# Altium schematic symbol library Cellar Watchdog.SchLib: 75 symbols (part 1 of 2)
Pins are listed as number, name and electrical type; pins without a type are passive.

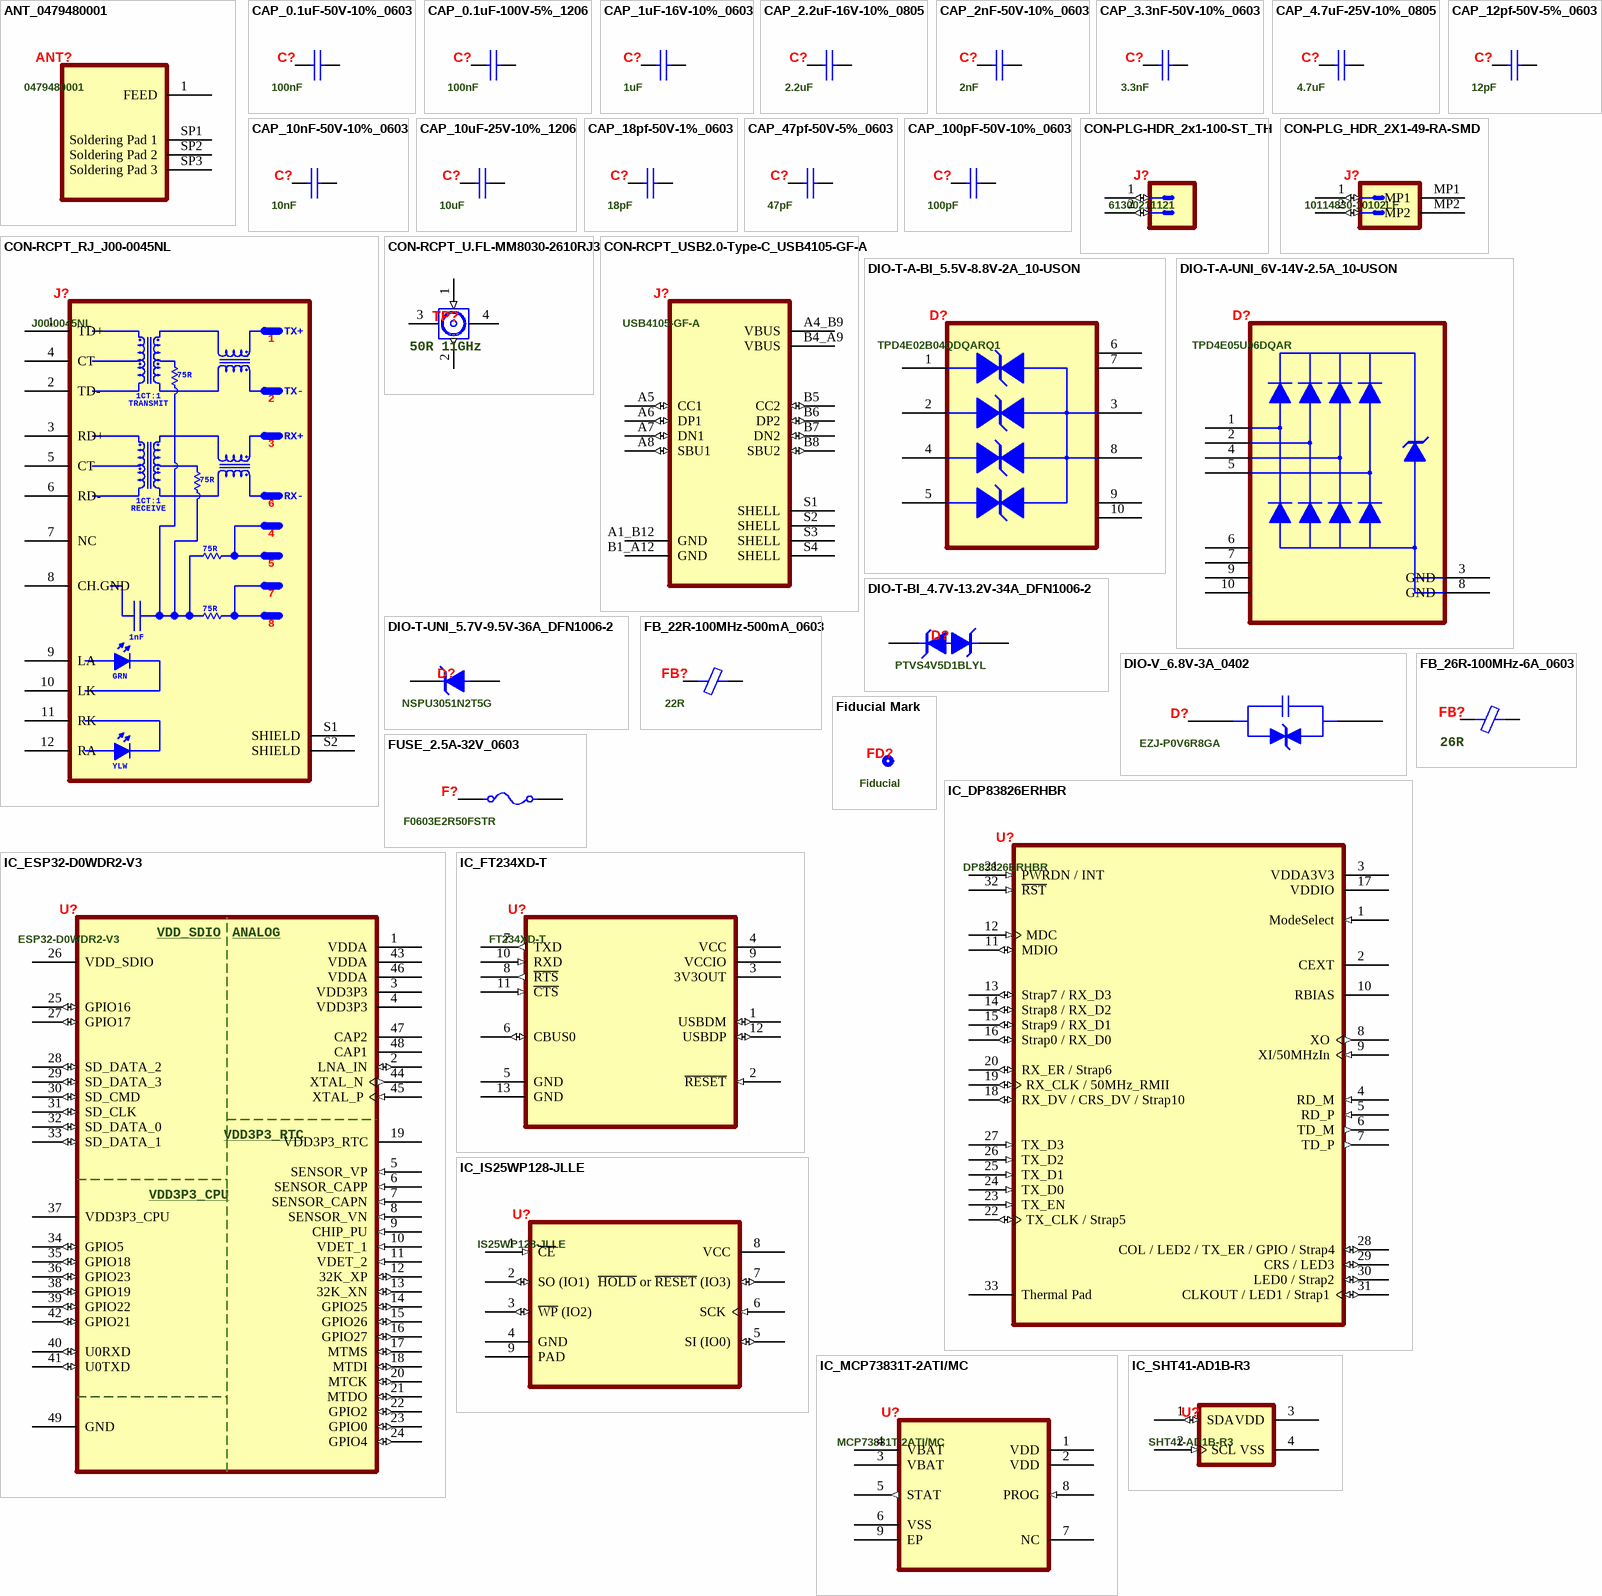
[diagram p0: symbols ANT_0479480001 to IC_SHT41-AD1B-R3]

## ANT_0479480001
designator ANT?, comment 0479480001
2.4GHz Bluetooth, WLAN, Zigbee™ Chip RF Antenna 2.4GHz ~ 2.483.5GHz 3dBi Solder Surface Mount; Manufacturer: Molex; Supplier 1: Digi-Key; Manufacturer Part Number: 0479480001; RoHS: Yes; Category: Uncategorized; Stock 1: 24488; Pricing 1: 1=1.95000, 10=1.75600, 25=1.65640, 100=1.41130, 250=1.32520, 500=1.15956 (USD); Supplier 2: Mouser; Supplier Part Number 1: WM4893CT-ND; Supplier Part Number 2: 538-47948-0001; ComponentLink4Description: Application Specification; ComponentLink4URL: C:\Users\Public\Documents\Altium\Projects\Cellar_Watchdog\Docs\Antenna\AS-47948-001-001.pdf; ComponentLink5Description: Product Specification; ComponentLink5URL: C:\Users\Public\Documents\Altium\Projects\Cellar_Watchdog\Docs\Antenna\PS-47948-001-001.pdf; ComponentLink6Description: Product Design Drawing; ComponentLink6URL: C:\Users\Public\Documents\Altium\Projects\Cellar_Watchdog\Docs\Antenna\479480001_sd.pdf
footprint ANT_MOLEX_0479480001 (Antenna Molex 0479480001)
pins: 1 FEED "Chip Enable", SP1 Soldering Pad 1, SP2 Soldering Pad 2, SP3 Soldering Pad 3

## CAP_0.1uF-50V-10%_0603
designator C?, comment 100nF
0.1 µF ±10% 50V Ceramic Capacitor X7R 0603 (1608 Metric); Manufacturer: Yageo; Manufacturer Part Number: CC0603KRX7R9BB104; Supplier 1: Digi-Key; RoHS: Yes; Category: Ceramic Capacitors; Stock 1: 10054527; Pricing 1: 1=0.10000, 10=0.05400, 50=0.02960, 100=0.02430, 500=0.01732, 1000=0.01361 (USD); Mounting Technology: Surface Mount; Case/Package: 0603; Pins: 2; Case Code (Metric): 1608; Case Code (Imperial): 0603; Dielectric Material: Ceramic; Min Operating Temperature: -55°C; Max Operating Temperature: 125°C; Package Quantity: 1; Capacitance: 100nF; Voltage Rating: 50V; Tolerance: 10%; Packaging: Tape and Reel; Dielectric: X7R; Termination: SMD/SMT; Voltage: 50V; Series: CC; Length: 0.063inch; Width: 0.031inch; Height: 0.8mm; Thickness: 0.035inch; Depth: 0.8mm; Radiation Hardening: No; Reach SVHC Compliant: Yes; Lead Free: Lead Free; Halogen Free: Halogen Free; RoHS Compliant: Yes; ComponentLink1URL: C:\Users\Public\Documents\Altium\Projects\Cellar_Watchdog\Docs\Capacitor\UPY-GPHC_X7R_6.3V-to-250V_22.pdf; ComponentLink1Description: Datasheet; Supplier Part Number 2: 603-CC603KRX7R9BB104; Supplier Part Number 1: 311-1344-1-ND; Supplier 2: Mouser
simulation model C_Capacitor_Default (Model Description)
footprint CAP_0603 (Ceramic Capacitor SMD 0603 (Metric 1608))
pins: 1, 2

## CAP_0.1uF-100V-5%_1206
designator C?, comment 100nF
0.1 µF ±5% 100V Ceramic Capacitor X7R 1206 (3216 Metric); Manufacturer: Yageo; Manufacturer Part Number: CC1206JKX7R0BB104; Supplier 1: Digi-Key; RoHS: Yes; Category: Ceramic Capacitors; Stock 1: 36526; Pricing 1: 1=0.27000, 10=0.18300, 50=0.12220, 100=0.10380, 500=0.07328, 1000=0.06412 (USD); Mounting Technology: Surface Mount; Case/Package: 1206; Case Code (Imperial): 1206; Case Code (Metric): 3216; Weight: 0.000571oz; Min Operating Temperature: -55°C; Max Operating Temperature: 125°C; Capacitance: 100nF; Tolerance: 5%; Packaging: Tape and Reel; Voltage Rating (DC): 100V; Voltage Rating: 100V; Dielectric: X7R; Termination: SMD/SMT; Resistor Type: Ceramic; Series: CC; Construction: Flat; Length: 3.2mm; Width: 0.063inch; Height: 1.25mm; Thickness: 0.057inch; Depth: 1.6mm; Radiation Hardening: No; Lead Free: Lead Free; RoHS Compliant: Yes; ComponentLink1URL: C:\Users\Public\Documents\Altium\Projects\Cellar_Watchdog\Docs\Capacitor\UPY-GPHC_X7R_6.3V-to-250V_22.pdf; ComponentLink1Description: Datasheet; Supplier 2: Mouser; Supplier Part Number 1: 311-3557-1-ND; Supplier Part Number 2: 603-CC126JKX7R0BB104
footprint CAP_1206 (Ceramic Capacitor SMD 1206 (Metric 3216))
simulation model C_Capacitor_Default (Model Description)
pins: 1, 2

## CAP_1uF-16V-10%_0603
designator C?, comment 1uF
1 µF ±10% 16V Ceramic Capacitor X7R 0603 (1608 Metric); Manufacturer: Yageo; Manufacturer Part Number: CC0603KRX7R7BB105; Dissipation Factor: 5%; Supplier 1: Digi-Key; RoHS: Yes; Category: Ceramic Capacitors; Stock 1: 10491943; Pricing 1: 1=0.14000, 10=0.09800, 50=0.05560, 100=0.04610, 500=0.03234, 1000=0.02678 (USD); Mounting Technology: Surface Mount; Case/Package: 0603; Pins: 2; Case Code (Metric): 1608; Case Code (Imperial): 0603; Min Operating Temperature: -55°C; Max Operating Temperature: 125°C; Capacitance: 1uF; Tolerance: 10%; Dielectric: X7R; Voltage Rating: 16V; Package Quantity: 1; Packaging: Tape and Reel; Voltage Rating (DC): 16V; Termination: SMD/SMT; Resistor Type: Ceramic; Voltage: 16V; Series: CC; Construction: Flat; Length: 1.6mm; Width: 0.031inch; Height: 0.8mm; Thickness: 0.035inch; Depth: 0.8mm; Radiation Hardening: No; Lead Free: Lead Free; Halogen Free: Halogen Free; RoHS Compliant: Yes; ComponentLink1URL: C:\Users\Public\Documents\Altium\Projects\Cellar_Watchdog\Docs\Capacitor\UPY-GPHC_X7R_6.3V-to-250V_22.pdf; ComponentLink1Description: Datasheet; Supplier 2: Mouser; Supplier Part Number 1: 311-1446-1-ND; Supplier Part Number 2: 603-CC603KRX7R7BB105
footprint CAP_0805 (Ceramic Capacitor SMD 0805 (Metric 2012))
simulation model C_Capacitor_Default (Model Description)
pins: 1, 2

## CAP_2.2uF-16V-10%_0805
designator C?, comment 2.2uF
2.2 µF ±10% 16V Ceramic Capacitor X7R 0805 (2012 Metric); Manufacturer: Yageo; Manufacturer Part Number: CC0805KKX7R7BB225; Supplier 1: Digi-Key; RoHS: Yes; Category: Ceramic Capacitors; Stock 1: 121066; Pricing 1: 1=0.27000, 10=0.18700, 50=0.11240, 100=0.09500, 500=0.06500, 1000=0.05749 (USD); Mounting Technology: Surface Mount; Case/Package: 0805; Pins: 2; Case Code (Imperial): 0805; Case Code (Metric): 2012; Min Operating Temperature: -55°C; Max Operating Temperature: 125°C; Capacitance: 2.2uF; Tolerance: 10%; Dielectric: X7R; Voltage Rating: 16V; Voltage Rating (DC): 16V; Packaging: Tape and Reel; Termination: SMD/SMT; Resistor Type: Ceramic; Series: CC; Construction: Flat; Length: 2mm; Width: 0.049inch; Height: 1.25mm; Thickness: 0.057inch; Depth: 1.25mm; Radiation Hardening: No; Lead Free: Lead Free; Halogen Free: Halogen Free; RoHS Compliant: Yes; ComponentLink1URL: C:\Users\Public\Documents\Altium\Projects\Cellar_Watchdog\Docs\Capacitor\UPY-GPHC_X7R_6.3V-to-250V_22.pdf; ComponentLink1Description: Datasheet; Supplier 2: Mouser; Supplier Part Number 2: 603-CC805KKX7R7BB225; Supplier Part Number 1: 311-1881-1-ND
footprint CAP_0805 (Ceramic Capacitor SMD 0805 (Metric 2012))
simulation model C_Capacitor_Default (Model Description)
pins: 1, 2

## CAP_2nF-50V-10%_0603
designator C?, comment 2nF
2000 pF ±10% 50V Ceramic Capacitor X7R 0603 (1608 Metric); Manufacturer: Yageo; Manufacturer Part Number: CC0603KRX7R9BB202; Supplier 1: Digi-Key; RoHS: Yes; Category: Ceramic Capacitors; Stock 1: 23619; Pricing 1: 1=0.10000, 10=0.06100, 50=0.03320, 100=0.02710, 500=0.01934, 1000=0.01519 (USD); Mounting Technology: Surface Mount; Case/Package: 0603; Case Code (Imperial): 0603; Case Code (Metric): 1608; Weight: 7.1E-05oz; Min Operating Temperature: -55°C; Max Operating Temperature: 125°C; Packaging: Tape and Reel; Capacitance: 2nF; Voltage Rating (DC): 50V; Tolerance: 10%; Voltage Rating: 50V; Dielectric: X7R; Termination: SMD/SMT; Resistor Type: Ceramic; Series: CC; Length: 0.063inch; Width: 0.031inch; Thickness: 0.035inch; Depth: 0.8mm; Lead Free: Lead Free; Halogen Free: Halogen Free; ComponentLink1URL: C:\Users\Public\Documents\Altium\Projects\Cellar_Watchdog\Docs\Capacitor\UPY-GPHC_X7R_6.3V-to-250V_22.pdf; ComponentLink1Description: Datasheet; Supplier 2: Mouser; Supplier Part Number 1: 311-4098-1-ND; Supplier Part Number 2: 603-CC603KRX7R9BB202
footprint CAP_0603 (Ceramic Capacitor SMD 0603 (Metric 1608))
simulation model C_Capacitor_Default (Model Description)
pins: 1, 2

## CAP_3.3nF-50V-10%_0603
designator C?, comment 3.3nF
3300 pF ±10% 50V Ceramic Capacitor X7R 0603 (1608 Metric); Manufacturer: Yageo; Manufacturer Part Number: CC0603KRX7R9BB332; Dissipation Factor: 3%; Insulation Resistance: 100GR; Supplier 1: Digi-Key; RoHS: Yes; Category: Ceramic Capacitors; Stock 1: 541031; Pricing 1: 1=0.10000, 10=0.04600, 50=0.02480, 100=0.02030, 500=0.01450, 1000=0.01139 (USD); Mounting Technology: Surface Mount; Case/Package: 0603; Pins: 2; Case Code (Imperial): 0603; Case Code (Metric): 1608; Dielectric Material: Ceramic; Min Operating Temperature: -55°C; Max Operating Temperature: 125°C; Tolerance: 10%; Capacitance: 3.3nF; Dielectric: X7R; Package Quantity: 1; Voltage Rating: 50V; Voltage Rating (DC): 50V; Packaging: Tape and Reel; Termination: SMD/SMT; Resistor Type: Ceramic; Voltage: 50V; Series: CC; Length: 1.6mm; Width: 0.031inch; Height: 0.8mm; Thickness: 0.035inch; Depth: 0.8mm; Radiation Hardening: No; RoHS Compliant: Yes; Reach SVHC Compliant: Yes; Lead Free: Lead Free; Halogen Free: Halogen Free; ComponentLink1URL: C:\Users\Public\Documents\Altium\Projects\Cellar_Watchdog\Docs\Capacitor\UPY-GPHC_X7R_6.3V-to-250V_22.pdf; ComponentLink1Description: Datasheet; Supplier 2: Mouser; Supplier Part Number 1: 311-1082-1-ND; Supplier Part Number 2: 603-CC603KRX7R9BB332
simulation model C_Capacitor_Default (Model Description)
footprint CAP_0603 (Ceramic Capacitor SMD 0603 (Metric 1608))
pins: 1, 2

## CAP_4.7uF-25V-10%_0805
designator C?, comment 4.7uF
4.7 µF ±10% 25V Ceramic Capacitor X7R 0805 (2012 Metric); Manufacturer: Yageo; Manufacturer Part Number: CC0805KKX7R8BB475; Supplier 1: Digi-Key; RoHS: Yes; Category: Ceramic Capacitors; Stock 1: 26099; Pricing 1: 1=0.39000, 10=0.27000, 50=0.18940, 100=0.16230, 500=0.12172, 1000=0.10278 (USD); Mounting Technology: Surface Mount; Case/Package: 0805; Case Code (Metric): 2012; Case Code (Imperial): 0805; Weight: 0.000194oz; Min Operating Temperature: -55°C; Max Operating Temperature: 125°C; Packaging: Tape and Reel; Capacitance: 4.7uF; Voltage Rating: 25V; Tolerance: 10%; Dielectric: X7R; Termination: SMD/SMT; Voltage Rating (DC): 25V; Package Quantity: 3000; Length: 0.079inch; Width: 0.049inch; Thickness: 0.057inch; Lead Free: Lead Free; Halogen Free: Halogen Free; RoHS Compliant: Yes; ComponentLink1URL: C:\Users\Public\Documents\Altium\Projects\Cellar_Watchdog\Docs\Capacitor\UPY-GP_NP0_16V-to-50V_18.pdf; ComponentLink1Description: Datasheet; Supplier 2: Mouser; Supplier Part Number 1: 311-1885-1-ND; Supplier Part Number 2: 603-CC805KKX7R8BB475
footprint CAP_0805 (Ceramic Capacitor SMD 0805 (Metric 2012))
simulation model C_Capacitor_Default (Model Description)
pins: 1, 2

## CAP_10nF-50V-10%_0603
designator C?, comment 10nF
10000 pF ±10% 50V Ceramic Capacitor X7R 0603 (1608 Metric); Manufacturer: Yageo; Manufacturer Part Number: CC0603KRX7R9BB103; Insulation Resistance: 100GR; Supplier 1: Digi-Key; RoHS: Yes; Category: Ceramic Capacitors; Stock 1: 8015125; Pricing 1: 1=0.10000, 10=0.03200, 50=0.01760, 100=0.01440, 500=0.01026, 1000=0.00805 (USD); Mounting Technology: Surface Mount; Case/Package: 0603; Pins: 2; Material: Ceramic; Case Code (Metric): 1608; Case Code (Imperial): 0603; Min Operating Temperature: -55°C; Max Operating Temperature: 125°C; Tolerance: 10%; Capacitance: 10nF; Dielectric: X7R; Voltage: 50V; Packaging: Tape and Reel; Voltage Rating: 50V; Voltage Rating (DC): 50V; Package Quantity: 1; Termination: SMD/SMT; Resistor Type: Ceramic; Series: CC; Length: 1.6mm; Width: 0.031inch; Height: 0.8mm; Thickness: 0.035inch; Depth: 0.8mm; Radiation Hardening: No; RoHS Compliant: Yes; Lead Free: Lead Free; Halogen Free: Halogen Free; ComponentLink1URL: C:\Users\Public\Documents\Altium\Projects\Cellar_Watchdog\Docs\Capacitor\UPY-GPHC_X7R_6.3V-to-250V_22.pdf; ComponentLink1Description: Datasheet; Supplier 2: Mouser; Supplier Part Number 1: 311-1085-1-ND; Supplier Part Number 2: 603-CC603KRX7R9BB103
footprint CAP_0603 (Ceramic Capacitor SMD 0603 (Metric 1608))
simulation model C_Capacitor_Default (Model Description)
pins: 1, 2

## CAP_10uF-25V-10%_1206
designator C?, comment 10uF
10 µF ±10% 25V Ceramic Capacitor X7R 1206 (3216 Metric); Manufacturer: Yageo; Manufacturer Part Number: CC1206KKX7R8BB106; Supplier 1: Digi-Key; RoHS: Yes; Category: Ceramic Capacitors; Stock 1: 67513; Pricing 1: 1=0.51000, 10=0.35100, 50=0.24580, 100=0.21070, 500=0.15806, 1000=0.13347 (USD); Mounting Technology: Surface Mount; Case/Package: 1206; Case Code (Imperial): 1206; Case Code (Metric): 3216; Weight: 0.000571oz; Min Operating Temperature: -55°C; Max Operating Temperature: 125°C; Capacitance: 10uF; Tolerance: 10%; Dielectric: X7R; Packaging: Tape and Reel; Voltage Rating (DC): 25V; Voltage Rating: 25V; Termination: SMD/SMT; Resistor Type: Ceramic; Series: CC; Construction: Flat; Length: 3.2mm; Width: 1.6mm; Depth: 1.6mm; Thickness: 0.071inch; Radiation Hardening: No; Lead Free: Lead Free; Halogen Free: Halogen Free; RoHS Compliant: Yes; Supplier 2: Mouser; ComponentLink1Description: Datasheet; ComponentLink1URL: C:\Users\Public\Documents\Altium\Projects\Cellar_Watchdog\Docs\Capacitor\UPY-GPHC_X7R_6.3V-to-250V_22.pdf; Supplier Part Number 1: 311-1959-1-ND; Supplier Part Number 2: 603-CC126KKX7R8BB106
simulation model C_Capacitor_Default (Model Description)
footprint CAP_1206 (Ceramic Capacitor SMD 1206 (Metric 3216))
pins: 1, 2

## CAP_12pf-50V-5%_0603
designator C?, comment 12pF
12 pF ±5% 50V Ceramic Capacitor C0G, NP0 0603 (1608 Metric); Manufacturer: Yageo; Manufacturer Part Number: CC0603JRNPO9BN120; Insulation Resistance: 100GR; Supplier 1: Digi-Key; RoHS: Yes; Category: Ceramic Capacitors; Stock 1: 152407; Pricing 1: 1=0.10000, 10=0.05100, 50=0.02800, 100=0.02280, 500=0.01630, 1000=0.01280 (USD); Mounting Technology: Surface Mount; Case/Package: 0603; Pins: 2; Case Code (Metric): 1608; Case Code (Imperial): 0603; Dielectric Material: Ceramic; Min Operating Temperature: -55°C; Max Operating Temperature: 125°C; Package Quantity: 1; Capacitance: 12pF; Voltage Rating: 50V; Tolerance: 5%; Packaging: Tape and Reel; Voltage Rating (DC): 50V; Dielectric: C0G; Termination: SMD/SMT; Resistor Type: Ceramic; Series: CC; Length: 1.6mm; Width: 0.031inch; Height: 0.8mm; Thickness: 0.035inch; Depth: 0.8mm; Radiation Hardening: No; Reach SVHC Compliant: Yes; Lead Free: Lead Free; RoHS Compliant: Yes; ComponentLink7URL: C:\Users\Public\Documents\Altium\Projects\Cellar_Watchdog\Docs\Capacitor\UPY-GP_NP0_16V-to-50V_18.pdf; ComponentLink7Description: Datasheet; Supplier 2: Mouser; Supplier Part Number 1: 311-1059-1-ND; Supplier Part Number 2: 603-CC603JRNPO9BN120
simulation model C_Capacitor_Default (Model Description)
footprint CAP_0603 (Ceramic Capacitor SMD 0603 (Metric 1608))
pins: 1, 2

## CAP_18pf-50V-1%_0603
designator C?, comment 18pF
18 pF ±1% 50V Ceramic Capacitor C0G, NP0 0603 (1608 Metric); Manufacturer: Yageo; Manufacturer Part Number: CC0603FRNPO9BN180; Supplier 1: Digi-Key; RoHS: Yes; Category: Ceramic Capacitors; Stock 1: 77143; Pricing 1: 1=0.19000, 10=0.13300, 50=0.07560, 100=0.06260, 500=0.04390, 1000=0.03634 (USD); Mounting Technology: Surface Mount; Case/Package: 0603; Case Code (Imperial): 0603; Case Code (Metric): 1608; Min Operating Temperature: -55°C; Max Operating Temperature: 125°C; Tolerance: 1%; Capacitance: 18pF; Dielectric: C0G; Packaging: Tape and Reel; Voltage Rating: 50V; Voltage Rating (DC): 50V; Termination: SMD/SMT; Resistor Type: Ceramic; Series: CC; Length: 1.6mm; Width: 0.031inch; Height: 0.8mm; Thickness: 0.035inch; Depth: 0.8mm; Radiation Hardening: No; Lead Free: Lead Free; RoHS Compliant: Yes; Supplier 2: Mouser; ComponentLink1Description: Datasheet; ComponentLink1URL: C:\Users\Public\Documents\Altium\Projects\Cellar_Watchdog\Docs\Capacitor\UPY-GP_NP0_16V-to-50V_18.pdf; Supplier Part Number 2: 603-CC603FRNPO9BN180; Supplier Part Number 1: 311-3889-1-ND
footprint CAP_0603 (Ceramic Capacitor SMD 0603 (Metric 1608))
simulation model C_Capacitor_Default (Model Description)
pins: 1, 2

## CAP_47pf-50V-5%_0603
designator C?, comment 47pF
47 pF ±5% 50V Ceramic Capacitor C0G, NP0 0603 (1608 Metric); Manufacturer: Yageo Phycomp; Manufacturer Part Number: CC0603JRNPO9BN470; Insulation Resistance: 100GR; Temperature Coefficient: 30ppm/°C; Supplier 1: Digi-Key; RoHS: Yes; Category: Ceramic Capacitors; Stock 1: 855841; Pricing 1: 1=0.10000, 10=0.03500, 50=0.01920, 100=0.01570, 500=0.01120, 1000=0.00880 (USD); Mounting Technology: Surface Mount; Case/Package: 0603; Pins: 2; Case Code (Imperial): 0603; Case Code (Metric): 1608; Min Operating Temperature: -55°C; Max Operating Temperature: 125°C; Tolerance: 5%; Capacitance: 47pF; Dielectric: C0G; Voltage Rating: 50V; Packaging: Tape and Reel; Voltage Rating (DC): 50V; Voltage: 50V; Package Quantity: 1; Termination: SMD/SMT; Resistor Type: Ceramic; Series: CC; Length: 1.6mm; Width: 0.8mm; Height: 0.8mm; Thickness: 0.035inch; Depth: 0.8mm; Radiation Hardening: No; Lead Free: Lead Free; RoHS Compliant: Yes; Reach SVHC Compliant: Yes; ComponentLink1URL: C:\Users\Public\Documents\Altium\Projects\Cellar_Watchdog\Docs\Capacitor\UPY-GP_NP0_16V-to-50V_18.pdf; ComponentLink1Description: Datasheet; Supplier 2: Mouser; Supplier Part Number 1: 311-1065-1-ND; Supplier Part Number 2: 603-CC603JRNPO9BN470
simulation model C_Capacitor_Default (Model Description)
footprint CAP_0603 (Ceramic Capacitor SMD 0603 (Metric 1608))
pins: 1, 2

## CAP_100pF-50V-10%_0603
designator C?, comment 100pF
100 pF ±10% 50V Ceramic Capacitor X7R 0603 (1608 Metric); Manufacturer: Yageo; Manufacturer Part Number: CC0603KRX7R9BB101; Insulation Resistance: 100GR; Supplier 1: Digi-Key; RoHS: Yes; Category: Ceramic Capacitors; Stock 1: 454408; Pricing 1: 1=0.10000, 10=0.04800, 50=0.02620, 100=0.02140, 500=0.01528, 1000=0.01200 (USD); Mounting Technology: Surface Mount; Case/Package: 0603; Pins: 2; Case Code (Imperial): 0603; Case Code (Metric): 1608; Min Operating Temperature: -55°C; Max Operating Temperature: 125°C; Capacitance: 100pF; Tolerance: 10%; Dielectric: X7R; Voltage Rating (DC): 50V; Packaging: Tape and Reel; Voltage Rating: 50V; Package Quantity: 4000; Termination: SMD/SMT; Voltage: 50V; Series: CC; Length: 1.6mm; Width: 0.031inch; Height: 0.8mm; Thickness: 0.035inch; Depth: 0.8mm; Radiation Hardening: No; RoHS Compliant: Yes; Reach SVHC Compliant: Yes; Lead Free: Lead Free; Halogen Free: Halogen Free; ComponentLink1URL: C:\Users\Public\Documents\Altium\Projects\Cellar_Watchdog\Docs\Capacitor\UPY-GPHC_X7R_6.3V-to-250V_22.pdf; ComponentLink1Description: Datasheet; Supplier 2: Mouser; Supplier Part Number 1: 311-3601-1-ND; Supplier Part Number 2: 603-CC603KRX7R9BB101
simulation model C_Capacitor_Default (Model Description)
footprint CAP_0603 (Ceramic Capacitor SMD 0603 (Metric 1608))
pins: 1, 2

## CON-PLG-HDR_2x1-100-ST_TH
designator J?, comment 61300211121
Connector Header Through Hole 2 position 0.100" (2.54mm); Manufacturer: Wurth Electronics; Current Rating: 3A; Voltage Rating: 250V; Number of Positions: 2; Gender: Male; Connector Type: Male Pin; Pitch: 0.1inch; Supplier 1: Digi-Key; Manufacturer Part Number: 61300211121; RoHS: Yes; Category: Headers and Wire Housings; Stock 1: 266203; Pricing 1: 1=0.13000, 10=0.11300, 25=0.09400, 50=0.07900, 100=0.07100, 1000=0.06500 (USD); Mounting Technology: Through Hole; Contact Plating: Gold; Housing Material: PBT; Contact Material: Copper Alloy,Copper; Color: Black; Min Operating Temperature: -40°C; Max Operating Temperature: 125°C; Number of Rows: 1; Contact Gender: Male; Packaging: Bulk; Termination: Through Hole; Number of Contacts: 2; Series: WR-PHD; Contact Type: Male Pin; Contact Mating Length: 0.236inch; Lead Free: Lead Free; RoHS Compliant: Yes; ComponentLink1URL: C:\Users\Public\Documents\Altium\Projects\Cellar_Watchdog\Docs\Connector\6130xx11121.pdf; ComponentLink1Description: Datasheet; Supplier 2: Mouser; Supplier Part Number 1: 732-5315-ND; Supplier Part Number 2: 710-61300211121
footprint CON_PLG_HDR-2x1-100 (Header Vertical Through Hole 2 position 0.100" (2.54mm))
pins: 1 (io), 2 (io)

## CON-PLG_HDR_2X1-49-RA-SMD
designator J?, comment 10114830-10102LF
Connector Header Surface Mount, Right Angle 2 position 0.049" (1.25mm); Manufacturer: Amphenol Communications Solutions; Supplier 1: Digi-Key; Manufacturer Part Number: 10114830-10102LF; RoHS: No; Category: Connectors; Stock 1: 12004; Pricing 1: 1=0.39000, 10=0.33200, 100=0.25860, 500=0.22164 (USD); Supplier 2: Mouser; Supplier Part Number 1: 609-5378-1-ND; Supplier Part Number 2: 649-10114830-10102LF; ComponentLink1Description: Datasheet; ComponentLink1URL: C:\Users\Public\Documents\Altium\Projects\Cellar_Watchdog\Docs\Connector\gs-12-675.pdf; ComponentLink2Description: Drawing; ComponentLink2URL: C:\Users\Public\Documents\Altium\Projects\Cellar_Watchdog\Docs\Connector\10114830.pdf
footprint CON-PLG_HDR_2X1-10114828-11103LF (Connector Male 2-pin Amphenol 10114828-11103LF)
pins: 1 (io), 2 (io), MP1, MP2

## CON-RCPT_RJ_J00-0045NL
designator J?, comment J00-0045NL
1 Port RJ45 Through Hole 10/100 Base-TX, AutoMDIX; Manufacturer: Pulse; Number of Ports: 1; Number of Positions Loaded: 8; Pitch: 2.54mm; Supplier 1: Digi-Key; Manufacturer Part Number: J00-0045NL; RoHS: Yes; Category: Modular / Ethernet Connectors; Stock 1: 10543; Pricing 1: 1=6.57000, 10=5.94100, 25=5.61200, 50=5.47540, 100=5.20150, 250=4.65400, 500=4.38024, 1000=3.83272, 2500=3.64108 (USD); Number of Pins: 8; Contact Material: Bronze; Contact Plating: Gold; Housing Material: Thermoplastic; Min Operating Temperature: 0°C; Max Operating Temperature: 70°C; Orientation: Right Angle; Packaging: Rail/Tube; Length: 16.26mm; Depth: 21.59mm; Lead Free: Lead Free; RoHS Compliant: Yes; Supplier 2: Mouser; Supplier Part Number 1: 553-1619-5-ND; Supplier Part Number 2: 673-J00-0045NL; ComponentLink2Description: Datasheet; ComponentLink2URL: C:\Users\Public\Documents\Altium\Projects\Cellar_Watchdog\Docs\Connector\J00_Series_Rev_Mar2019.pdf
footprint CON-RCPT_RJ_PULSE_J00-0045NL (Connector RJ PULSE J00-0045NL)
pins: 1 TD+, 2 TD-, 3 RD+, 4 CT, 5 CT, 6 RD-, 7 NC, 8 CH.GND (power), 9 LA, 10 LK, 11 RK, 12 RA, S1 SHIELD, S2 SHIELD
text: TX+; 75R; TX-; 1CT:1; TRANSMIT; RX+; RX-; RECEIVE; 1nF; GRN; YLW

## CON-RCPT_U.FL-MM8030-2610RJ3
designator TP?, comment 50R 11GHz
SWG Connector Receptacle, Female Socket 50Ohm Surface Mount Solder; Manufacturer: Murata; Manufacturer Part Number: MM8030-2610RJ3; Body Material: Copper; Voltage Rating: 250V; Polarity: Standard; Insulation Resistance: 500MR; Operating Frequency: 0 to 11 GHz; Supplier 1: Digi-Key; RoHS: No; Category: RF / Coaxial Connectors; Stock 1: 124387; Pricing 1: 1=0.18000, 10=0.15300, 25=0.13600, 50=0.12700, 100=0.11790, 250=0.10432, 500=0.09976, 1000=0.08163 (USD); Mounting Technology: Surface Mount; Case/Package: SMD/SMT; Contact Plating: Gold; Housing Color: Gold; Min Operating Temperature: -40°C; Max Operating Temperature: 85°C; Package Quantity: 1; Impedance: 50R; Fastening Type: Pull; Packaging: Tape and Reel; Termination: Solder; Clock Frequency: 11GHz; Frequency: 11GHz; Connector Type: Socket; Orientation: Straight; Series: 8030; Length: 2.1mm; Depth: 2mm; Lead Free: Lead Free; RoHS Compliant: No; ComponentLink1URL: C:\Users\Public\Documents\Altium\Projects\Cellar_Watchdog\Docs\Connector\Microwave_Coaxial_Conn_Cat030E.pdf; ComponentLink1Description: Datasheet; Supplier 2: Mouser; Supplier Part Number 2: 81-MM8030-2610RJ3; Supplier Part Number 1: 490-5907-1-ND
footprint CON-RCPT_U.FL_MM8030-2610RJ3 (SWG Connecyor Receptacle Female Socket 50R SMD)
pins: 1 IN (in), 2 OUT (out), 3 GND (power), 4 GND (power)

## CON-RCPT_USB2.0-Type-C_USB4105-GF-A
designator J?, comment USB4105-GF-A
USB-C (USB TYPE-C) USB 2.0 Receptacle Connector 24 (16+8 Dummy) Position Surface Mount, Right Angle; Through Hole; Manufacturer: Global Connector Technology; ComponentLink2Description: Datasheet; ComponentLink2URL: C:\Users\Public\Documents\Altium\Projects\Cellar_Watchdog\Docs\Connector\usb4105.pdf; Supplier 1: Digi-Key; Manufacturer Part Number: USB4105-GF-A; RoHS: Yes; Category: USB Connectors; Stock 1: 73159; Pricing 1: 1=0.810000, 10=0.688000, 25=0.660000, 50=0.645800, 100=0.617700, 250=0.561560 (USD); Supplier 2: Mouser; Supplier Part Number 1: 2073-USB4105-GF-ACT-ND; Supplier Part Number 2: 640-USB4105-GF-A
footprint CON-RCPT_USB2.0-Type-C_GCT_USB4105-GF-A (Connector USB2.0 Type-C GCT USB4105-GF-A)
pins: A1_B12 GND (power) "Ground", A4_B9 VBUS (power) "Ground", A5 CC1 (io), A6 DP1 (io), A7 DN1 (io), A8 SBU1 (io), B1_A12 GND (power) "Ground", B4_A9 VBUS (power) "Ground", B5 CC2 (io), B6 DP2 (io), B7 DN2 (io), B8 SBU2 (io), S1 SHELL (power), S2 SHELL (power), S3 SHELL (power), S4 SHELL (power)

## DIO-T-A-BI_5.5V-8.8V-2A_10-USON
designator D?, comment TPD4E02B04QDQARQ1
8.8V Clamp 2A (8/20µs) Ipp Tvs Diode Surface Mount 10-USON (2.5x1); Manufacturer: Texas Instruments; Interface: LVDS,USB,Ethernet,HDMI; Number of Channels: 4; Reverse Standoff Voltage: 3.6V; Min Breakdown Voltage: 5.5V; Peak Pulse Power: 17W; Power Line Protection: No; Supplier 1: Digi-Key; Manufacturer Part Number: TPD4E02B04QDQARQ1; RoHS: Yes; Category: Integrated Circuits (ICs); Stock 1: 82049; Pricing 1: 1=0.72000, 10=0.63700, 100=0.48810, 500=0.38584, 1000=0.30867 (USD); Mount: Surface Mount; Number of Pins: 10; Min Operating Temperature: -40°C; Max Operating Temperature: 125°C; Resistor Type: Zener; Packaging: Tape and Reel; Number of Bidirectional Channels: 4; Clamping Voltage: 8.8V; Peak Pulse Current: 2A; RoHS Compliant: Yes; ComponentLink1URL: C:\Users\Public\Documents\Altium\Projects\Cellar_Watchdog\Docs\Diode\tpd4e02b04-q1.pdf; ComponentLink1Description: Datasheet; Supplier 2: Mouser; Supplier Part Number 1: 296-48995-1-ND; Supplier Part Number 2: 595-D4E02B04QDQARQ1
footprint DIO-T-A_10-USON (10-USON (2.5x1) Package)
pins: 1 IO1 "ESD Protected Channel", 2 IO2 "ESD Protected Channel", 3 GND (power) "Ground", 4 IO3 "ESD Protected Channel", 5 IO4 "ESD Protected Channel", 6 NC "Not connected", 7 NC "Not connected", 8 GND (power) "Ground", 9 NC "Not connected", 10 NC "Not connected"

## DIO-T-A-UNI_6V-14V-2.5A_10-USON
designator D?, comment TPD4E05U06DQAR
14V Clamp 2.5A (8/20µs) Ipp Tvs Diode Surface Mount 10-USON (2.5x1); Manufacturer: Texas Instruments; Direction: Unidirectional; Working Voltage: 5.5V; Capacitance: 0.5pF; Number of Bidirectional Channels: 4; Min Breakdown Voltage: 6V; Peak Pulse Power: 40W; Power Line Protection: Yes; Leakage Current: 10nA; Interface: LVDS,USB,Ethernet,HDMI,PCIe,SATA; Supplier 1: Digi-Key; Manufacturer Part Number: TPD4E05U06DQAR; RoHS: Yes; Category: Integrated Circuits (ICs); Stock 1: 330722; Pricing 1: 1=0.73000, 10=0.64300, 100=0.49310, 500=0.38980, 1000=0.31184 (USD); Mount: Surface Mount; Case/Package: SON; Number of Pins: 10; Contact Plating: Gold; Min Operating Temperature: -40°C; Max Operating Temperature: 125°C; Clamping Voltage: 14V; Packaging: Tape and Reel; Package Quantity: 3000; Polarity: Unidirectional; Reverse Standoff Voltage: 5.5V; Number of Channels: 4; Breakdown Voltage: 6V; Max Power Dissipation: 40W; Termination: SMD/SMT; Operating Supply Voltage: 5.5V; Peak Pulse Current: 2.5A; Series: -; Number of Unidirectional Channels: 4; Length: 2.6mm; Depth: 1.1mm; Radiation Hardening: No; Reach SVHC Compliant: Yes; Lead Free: Lead Free; RoHS Compliant: Yes; ComponentLink1URL: C:\Users\Public\Documents\Altium\Projects\Cellar_Watchdog\Docs\Diode\tpd4e05u06.pdf; ComponentLink1Description: Datasheet; Supplier 2: Mouser; Supplier Part Number 2: 595-TPD4E05U06DQAR; Supplier Part Number 1: 296-35765-1-ND
footprint DIO-T-A_10-USON (10-USON (2.5x1) Package)
simulation model TPD4E05U06 (4-Channel 14V Clamp 2.5A Ipp Tvs Diode)
pins: 1 D1+ "ESD Protected Channel", 2 D1- "ESD Protected Channel", 3 GND (power) "Ground", 4 D2+ "ESD Protected Channel", 5 D2- "ESD Protected Channel", 6 NC "Not connected", 7 NC "Not connected", 8 GND (power) "Ground", 9 NC "Not connected", 10 NC "Not connected"

## DIO-T-BI_4.7V-13.2V-34A_DFN1006-2
designator D?, comment PTVS4V5D1BLYL
13.2V Clamp 34A (8/20µs) Ipp Tvs Diode Surface Mount DFN1006-2; Manufacturer: Nexperia; Supplier 1: Digi-Key; Manufacturer Part Number: PTVS4V5D1BLYL; RoHS: Yes; Category: TVS Diodes; Stock 1: 9587; Pricing 1: 1=0.30000, 10=0.24200, 100=0.12810, 500=0.08426, 1000=0.05730, 2000=0.05168, 5000=0.04494 (USD); RoHS Compliant: Yes; ComponentLink1URL: C:\Users\Public\Documents\Altium\Projects\Cellar_Watchdog\Docs\Diode\PTVS4V5D1BL.pdf; ComponentLink1Description: Datasheet; Supplier 2: Mouser; Supplier Part Number 1: 1727-7415-1-ND; Supplier Part Number 2: 771-PTVS4V5D1BLYL
footprint DIO-T_DFN1006-2 (DFN1006-2(1x0.6) Package)
pins: 1 K1, 2 K2

## DIO-T-UNI_5.7V-9.5V-36A_DFN1006-2
designator D?, comment NSPU3051N2T5G
9.5V Clamp 36A (8/20µs) Ipp Tvs Diode Surface Mount 2-X2DFN (1x0.6); Manufacturer: ON Semiconductor; Number of Unidirectional Channels: 1; Reverse Standoff Voltage: 5.5V; Min Breakdown Voltage: 5.7V; Power Line Protection: No; Supplier 1: Digi-Key; Manufacturer Part Number: NSPU3051N2T5G; RoHS: Yes; Category: ESD and Circuit Protection ICs; Stock 1: 11788; Pricing 1: 1=0.40000, 10=0.30000, 100=0.17000, 500=0.11258, 1000=0.08631, 2000=0.07505 (USD); Mounting Technology: Surface Mount; Pins: 2; Min Operating Temperature: -65°C; Max Operating Temperature: 150°C; Resistor Type: Zener; Packaging: Cut Tape; Clamping Voltage: 9.5V; Peak Pulse Current: 36A; RoHS Compliant: Yes; ComponentLink1URL: C:\Users\Public\Documents\Altium\Projects\Cellar_Watchdog\Docs\Diode\NSPU3051-D.PDF; ComponentLink1Description: Datasheet; Supplier 2: Mouser; Supplier Part Number 1: NSPU3051N2T5GOSCT-ND; Supplier Part Number 2: 863-NSPU3051N2T5G
footprint DIO-T_DFN1006-2 (DFN1006-2(1x0.6) Package)
pins: 1 K, 2 A

## DIO-V_6.8V-3A_0402
designator D?, comment EZJ-P0V6R8GA
6.8 V 3 A Varistor 1 Circuit Surface Mount, MLCV 0402 (1005 Metric); Manufacturer: Panasonic; Supplier 1: Digi-Key; Manufacturer Part Number: EZJ-P0V6R8GA; RoHS: No; Category: Varistors; Stock 1: 8086; Pricing 1: 1=0.50000, 10=0.37400, 25=0.33680, 100=0.23280, 250=0.19608, 500=0.15930, 1000=0.12254, 2500=0.11029, 5000=0.10416 (USD); Supplier 2: Mouser; Supplier Part Number 1: 10-EZJ-P0V6R8GACT-ND; Supplier Part Number 2: 667-EZJ-P0V6R8GA; ComponentLink1Description: Datasheet; ComponentLink1URL: C:\Users\Public\Documents\Altium\Projects\Cellar_Watchdog\Docs\Diode\1695_fileversion.pdf
footprint CAP_0402 (0402 (1005 Metric) Package)
pins: 1, 2

## FB_22R-100MHz-500mA_0603
designator FB?, comment 22R
22 Ohms @ 100 MHz 1 Signal Line Ferrite Bead 0603 (1608 Metric) 500mA 350mOhm; Manufacturer: Murata; Manufacturer Part Number: BLM18BA220SN1D; Material: Ferrite,Steel; Tolerance: 25%; Number of Lines: 1; DC Resistance (DCR): 350mR; Test Frequency: 100MHz; Shielding: Unshielded; Supplier 1: Digi-Key; RoHS: Yes; Category: Ferrite Beads and Chips; Stock 1: 75893; Pricing 1: 1=0.10000, 10=0.07600, 25=0.06800, 50=0.05000, 100=0.04320, 250=0.03408, 500=0.02878, 1000=0.02424 (USD); Case/Package: 0603; Pins: 2; Core Material: Ferrite; Case Code (Metric): 1608; Case Code (Imperial): 0603; Min Operating Temperature: -55°C; Max Operating Temperature: 125°C; Package Quantity: 1; Impedance: 22R; Packaging: Tape and Reel; Current Rating: 500mA; Max Current Rating: 500mA; Max DC Current: 500mA; Termination: SMD/SMT; DC Current: 500mA; Frequency: 100MHz; Number of Circuits: 1; Series: BLM18B; DC Resistance-Max: 350mR; Length: 1.6mm; Width: 0.8mm; Height: 0.8mm; Depth: 0.8mm; Radiation Hardening: No; Reach SVHC Compliant: Yes; Military Standard: Not; Lead Free: Lead Free; RoHS Compliant: Yes; ComponentLink1URL: C:\Users\Public\Documents\Altium\Projects\Cellar_Watchdog\Docs\Ferrite Bead\QNFA9122.pdf; ComponentLink1Description: Datasheet; Supplier 2: Mouser; Supplier Part Number 2: 81-BLM18BA220SN1D; Supplier Part Number 1: 490-1016-1-ND
footprint FB_0603 (Ferrite Bead SMD 0603 (Metric 1608))
simulation model BLM18BA220SN1 (Model Description)
pins: 1, 2

## FB_26R-100MHz-6A_0603
designator FB?, comment 26R
26 Ohms @ 100 MHz 1 Power Line Ferrite Bead 0603 (1608 Metric) 6A 7mOhm; Manufacturer: Murata; Manufacturer Part Number: BLM18SG260TZ1D; Supplier 1: Mouser; RoHS: Yes; Category: Ferrite Beads and Chips; Stock 1: 1330; Pricing 1: 1=0.14000, 10=0.11300, 50=0.11300, 100=0.06300, 1000=0.03800, 10000=0.03400 (USD); RoHS Compliant: Yes; ComponentLink1URL: C:\Users\Public\Documents\Altium\Projects\Cellar_Watchdog\Docs\Ferrite Bead\QNFA9122.pdf; ComponentLink1Description: Datasheet; Supplier Part Number 1: 81-BLM18SG260TZ1D; Impedance: 26R
footprint FB_0603 (Ferrite Bead SMD 0603 (Metric 1608))
simulation model BLM18SG260TZ1 (Model Description)
pins: 1, 2

## Fiducial Mark
designator FD?, comment Fiducial  (no BOM)
PCB Fiducial Mark
footprint FID_RD (PCB Fiducial Mark)
footprint FID_SQ (PCB Fiducial Mark)

## FUSE_2.5A-32V_0603
designator F?, comment F0603E2R50FSTR
2.5 A AC 32 V DC Fuse Board Mount (Cartridge Style Excluded) Surface Mount 0603 (1608 Metric); Manufacturer: Kyocera AVX; Current Rating: 2.5A; Voltage Rating (DC): 32V; Resistance: 35mR; Approvals: UL; Supplier 1: Digi-Key; Manufacturer Part Number: F0603E2R50FSTR; RoHS: Yes; Category: Fuses; Stock 1: 6147; Pricing 1: 1=0.32000, 5=0.31000, 10=0.29500, 50=0.26360, 100=0.24540, 250=0.21816, 500=0.18180, 1000=0.17271 (USD); Mount: Surface Mount; Case/Package: 0603; Number of Pins: 2; Case Code (Metric): 1608; Case Code (Imperial): 0603; Min Operating Temperature: -55°C; Max Operating Temperature: 125°C; Packaging: Tape and Reel; Package Quantity: 3000; Voltage Rating: 32V; Max Voltage Rating (DC): 32V; Termination: SMD/SMT; DC Cold Resistance: 35mR; Working Voltage: 32V; Voltage Rating (AC): 32V; Fuse Type: Board Mount (Cartridge Style Excluded); Series: Accu-Guard® II; Length: 1.6mm; Width: 0.81mm; Height: 0.025inch; Depth: 0.81mm; Radiation Hardening: No; Lead Free: Lead Free; RoHS Compliant: Yes; ComponentLink1URL: C:\Users\Public\Documents\Altium\Projects\Cellar_Watchdog\Docs\Fuse\AccuGuard2.pdf; ComponentLink1Description: Datasheet; Supplier 2: Mouser; Supplier Part Number 1: 478-2867-1-ND; Supplier Part Number 2: 581-F0603E2R50FSTR
footprint FUSE_0603 (Fuse SMD 0603 (Metric 1608))
pins: 1 (power), 2 (power)

## IC_DP83826ERHBR
designator U?, comment DP83826ERHBR
Ethernet Controller 10/100 Base-T/TX PHY MII, RMII Interface 32-VQFN (5x5); Manufacturer: Texas Instruments; Supplier 1: Mouser; Manufacturer Part Number: DP83826ERHBR; RoHS: Yes; Category: Ethernet Interface ICs; Stock 1: 398; Pricing 1: 1=3.53000, 10=3.18000, 50=3.00000, 100=2.61000, 1000=1.94000, 10000=1.93000 (USD); Supplier Part Number 1: 595-DP83826ERHBR; ComponentLink2Description: Datasheet; ComponentLink2URL: C:\Users\Public\Documents\Altium\Projects\Cellar_Watchdog\Docs\Ethernet\dp83826e.pdf; ComponentLink3Description: Design Layout; ComponentLink3URL: C:\Users\Public\Documents\Altium\Projects\Cellar_Watchdog\Docs\Ethernet\snla387.pdf
footprint IC_QFN50P500X500X100-33N-D (VQFN32 (5mm x 5mm) package)
ibis DP83826 (Model Description)
pins: 1 ModeSelect (in) "Selects operating mode: BASIC or ENHANCED mode", 2 CEXT "External Capacitor", 3 VDDA3V3 (power) "Input analog supply: 3V3", 4 RD_M (in) "Differential receive input", 5 RD_P (in) "Differential receive input", 6 TD_M (out) "Differential transmit output", 7 TD_P (out) "Differential transmit output", 8 XO (out) "Crystal output", 9 XI/50MHzIn (in) "Crystal or oscillator input clock", 10 RBIAS "Bias Resistor", 11 MDIO (io) "Management Data I/O", 12 MDC (in) "Management Data Clock", 13 Strap7 / RX_D3 (io) "Receive Data", 14 Strap8 / RX_D2 (io) "Receive Data", 15 Strap9 / RX_D1 (io) "Receive Data", 16 Strap0 / RX_D0 (io) "Receive Data", 17 VDDIO (power) "I/O Supply voltage: 3.3V / 1.8V", 18 RX_DV / CRS_DV / Strap10 (io) "Receive Data Valid", 19 RX_CLK / 50MHz_RMII (io) "MII Receive Clock / RMII 50MHz Reference Clock", 20 RX_ER / Strap6 (io) "Receive Error", 21 PWRDN / INT (in) "Power down (default), interrupt", 22 TX_CLK / Strap5 (io) "MII transmit clock. Unused in RMII mode", 23 TX_EN (in) "Transmit enable", 24 TX_D0 (in) "Transmit data", 25 TX_D1 (in) "Transmit data", 26 TX_D2 (in) "Transmit data", 27 TX_D3 (in) "Transmit data", 28 COL / LED2 / TX_ER / GPIO / Strap4 (io) "Collision detect (default) / LED2 (in RMII)", 29 CRS / LED3 (io) "Carrier Sense (default) / LED3 (in RMII)", 30 LED0 / Strap2 (io) "LED transmit / receive, link status", 31 CLKOUT / LED1 / Strap1 (io) "25MHz Ref clock from XI as default to clock / LED1", 32 ~{RST} (in) "Reset low", 33 Thermal Pad (power)

## IC_ESP32-D0WDR2-V3
designator U?, comment ESP32-D0WDR2-V3
IC RF TxRx + MCU Bluetooth, WiFi 802.11b/g/n, Bluetooth v4.2 + EDR, Class 1, 2 and 3 2.4GHz 48-VFQFN Exposed Pad; Manufacturer: Espressif Systems; Supplier 1: Digi-Key; Manufacturer Part Number: ESP32-D0WDR2-V3; Stock 1: 4998; Pricing 1: 1=3.92000, 10=3.50000, 25=3.15000, 100=2.87000, 250=2.59000, 500=2.32400, 1000=2.10000 (USD); Supplier Part Number 2: 356-ESP32-D0WDR2-V3; ComponentLink1Description: Datasheet; ComponentLink1URL: C:\Users\Public\Documents\Altium\Projects\Cellar_Watchdog\Docs\MCU\esp32_datasheet_en.pdf; ComponentLink2Description: Technical Reference Manual; ComponentLink2URL: C:\Users\Public\Documents\Altium\Projects\Cellar_Watchdog\Docs\MCU\esp32_technical_reference_manual_en.pdf; ComponentLink3Description: Hardware Design Guidelines; ComponentLink3URL: C:\Users\Public\Documents\Altium\Projects\Cellar_Watchdog\Docs\MCU\esp32_hardware_design_guidelines_en.pdf; RoHS: No; Supplier 2: Mouser; Supplier Part Number 1: 1904-ESP32-D0WDR2-V3CT-ND
footprint IC_QFN35P500X500X90-49N (QFN48 (5mm x 5mm) package)
pins: 1 VDDA (power) "Analog power supply (2.3V ~ 3.6V)", 2 LNA_IN (io) "RF input and output", 3 VDD3P3 (power) "Analog power supply (2.3V ~ 3.6V)", 4 VDD3P3 (power) "Analog power supply (2.3V ~ 3.6V)", 5 SENSOR_VP (in) "GPIO36 / ADC1_CH0 / RTC_GPIO0", 6 SENSOR_CAPP (in) "GPIO37 / ADC1_CH1 / RTC_GPIO1", 7 SENSOR_CAPN (in) "GPIO38 / ADC1_CH2 / RTC_GPIO2", 8 SENSOR_VN (in) "GPIO39 / ADC1_CH3 / RTC_GPIO3", 9 CHIP_PU (in) "High: On (enables chip) - Low: Off (chip powers off) - Do not leave pin floating", 10 VDET_1 (in) "GPIO34 / ADC1_CH6 / RTC_GPIO4", 11 VDET_2 (in) "GPIO35 / ADC1_CH7 / RTC_GPIO5", 12 32K_XP (io) "GPIO32 / ADC1_CH4 / RTC_GPIO9 / TOUCH9 / 32.768kHz in)", 13 32K_XN (io) "GPIO33 / ADC1_CH5 / RTC_GPIO8 / TOUCH8 / 32.768kHz out)", 14 GPIO25 (io) "GPIO25 / ADC2_CH8 / RTC_GPIO6 / DAC_1 / EMAC_RXD0", 15 GPIO26 (io) "GPIO26 / ADC2_CH9 / RTC_GPIO7 / DAC_2 / EMAC_RXD1", 16 GPIO27 (io) "GPIO27 / ADC2_CH7 / RTC_GPIO17 / TOUCH7 / EMAC_RX_DV", 17 MTMS (io) "GPIO14 / ADC2_CH6 / RTC_GPIO16 / TOUCH6 / EMAC_TXD2 / HSPICLK / HS2_CLK / SD_CLK / MTMS", 18 MTDI (io) "GPIO12 / ADC2_CH5 / RTC_GPIO15 / TOUCH5 / EMAC_TXD3 / HSPIQ / HS2_DATA2 / SD_DATA2 / MTDI", 19 VDD3P3_RTC (power) "Input power supply for RTC IO (2.3V ~ 3.6V)", 20 MTCK (io) "GPIO13 / ADC2_CH4 / RTC_GPIO14 / TOUCH4 / EMAC_RX_ER / HSPID / HS2_DATA3 / SD_DATA3 / MTCK", 21 MTDO (io) "GPIO15 / ADC2_CH3 / RTC_GPIO13 / TOUCH3 / EMAC_RXD3 / HSPICS0 / HS2_CMD / SD_CMD / MTDO", 22 GPIO2 (io) "GPIO2 / ADC2_CH2 / RTC_GPIO12 / TOUCH2 / HSPIWP / HS2_DATA0 / SD_DATA0", 23 GPIO0 (io) "GPIO0 / ADC2_CH1 / RTC_GPIO11 / TOUCH1 / EMAC_TX_CLK / CLK_OUT1", 24 GPIO4 (io) "GPIO4 / ADC2_CH0 / RTC_GPIO10 / TOUCH0 / EMAC_TX_ER / HSPIHD / HS2_DATA1 / SD_DATA1", 25 GPIO16 (io) "GPIO16 / HS1_DATA4 / U2RXD / EMAC_CLK_OUT", 26 VDD_SDIO (power) "Output power supply; 1.8V or the same voltage as VDD3P3_RTC", 27 GPIO17 (io) "GPIO17 / HS1_DATA5 / U2TXD / EMAC_CLK_OUT_180", 28 SD_DATA_2 (io) "GPIO9 / HS1_DATA2 / U1RXD / SD_DATA2 / SPIHD", 29 SD_DATA_3 (io) "GPIO10 / HS1_DATA3 / U1TXD / SD_DATA3 / SPIWP", 30 SD_CMD (io) "GPIO11 / HS1_CMD / U1RTS / SD_CMD / SPICS0", 31 SD_CLK (io) "GPIO6 / HS1_CLK / U1CTS / SD_CLK / SPICLK", 32 SD_DATA_0 (io) "GPIO7 / HS1_DATA0 / U2RTS / SD_DATA0 / SPIQ", 33 SD_DATA_1 (io) "GPIO8 / HS1_DATA1 / U2CTS / SD_DATA1 / SPID", 34 GPIO5 (io) "GPIO5 / HS1_DATA6 / VSPICS0 / EMAC_RX_CLK", 35 GPIO18 (io) "GPIO18 / HS1_DATA7 / VSPICLK", 36 GPIO23 (io) "GPIO23 / HS1_STROBE / VSPID", 37 VDD3P3_CPU (power) "Input power supply for CPU IO (1.8V ~ 3.6V)", 38 GPIO19 (io) "GPIO19 / U0CTS / VSPIQ / EMAC_TXD0", 39 GPIO22 (io) "GPIO22 / U0RTS / VSPIWP / EMAC_TXD1", 40 U0RXD (io) "GPIO3 / U0RXD / CLK_OUT2", 41 U0TXD (io) "GPIO1 / U0TXD / CLK_OUT3 / EMAC_RXD2", 42 GPIO21 (io) "GPIO21 / VSPIHD / EMAC_TX_EN", 43 VDDA (power) "Analog power supply (2.3V ~ 3.6V)", 44 XTAL_N (out) "External crystal output", 45 XTAL_P (in) "External crystal input", 46 VDDA (power) "Analog power supply (2.3V ~ 3.6V)", 47 CAP2 "Connects to a 3.3nF (10%) capacitor and 20kΩ resistor in parallel to CAP1", 48 CAP1 "Connects to a 10nF series capacitor to ground", 49 GND (power) "Ground"
text: ANALOG

## IC_FT234XD-T
designator U?, comment FT234XD-T
USB Bridge, USB to UART USB 2.0 UART Interface 12-DFN (3x3); Manufacturer: FTDI; Number of Channels: 1; Operating Supply Voltage: 5.25V; Max Supply Voltage: 5.5V; Min Supply Voltage: 2.97V; Interface: USB,UART; Data Rate: 480Mbps; Operating Supply Current: 8mA; Supplier 1: Digi-Key; Manufacturer Part Number: FT234XD-T; RoHS: Yes; Category: Uncategorized; Stock 1: 30920; Pricing 1: 1=2.26000, 25=2.19000, 100=2.12000, 250=1.93000, 500=1.76250 (USD); Mount: Surface Mount; Case/Package: DFN; Number of Pins: 12; Min Operating Temperature: -40°C; Max Operating Temperature: 85°C; Packaging: Tray; Package Quantity: 490; ComponentLink2URL: C:\Users\Public\Documents\Altium\Projects\Cellar_Watchdog\Docs\USB-Serial Converter\DS_FT234XD.pdf; ComponentLink2Description: Datasheet; Supplier 2: Mouser; Supplier Part Number 1: 768-1345-ND; Supplier Part Number 2: 895-FT234XD-T; ComponentLink3Description: Design Guide (FT232BM); ComponentLink3URL: C:\Users\Public\Documents\Altium\Projects\Cellar_Watchdog\Docs\USB-Serial Converter\DG232_20.pdf; ComponentLink4Description: Technical Note USB Type-C; ComponentLink4URL: C:\Users\Public\Documents\Altium\Projects\Cellar_Watchdog\Docs\USB-Serial Converter\TN_181-Type-C-USB-Connectors-with-FTDI-Products.pdf
footprint IC_SON45P300X300X80-13N (DFN-12 Package)
pins: 1 USBDM (io) "USB Data Signal Minus", 2 ~{RESET} (in) "Serial Data Clock", 3 3V3OUT (power) "3.3V output at 50mA. May be used to power VCCIO. When VCC is 3.3V, pin 3 is input and should be connected to pin 4", 4 VCC (power) "5V (or 3.3V) supply to IC", 5 GND (power) "Ground", 6 CBUS0 (io) "Configurable CBUS I/O Pin. Function of this pin is configured in the device MTP memory. The default configuration is TXDEN.", 7 TXD (out) "Transmit Asynchronous Data Output", 8 ~{RTS} (out) "Request to Send Control Output / Handshake Signal", 9 VCCIO (power) "1.8V - 3.3V supply for the IO cells", 10 RXD (in) "Transmit Asynchronous Data Input", 11 ~{CTS} (in) "Clear to Send Control Input / Handshake Signal", 12 USBDP (io) "USB Data Signal Plus", 13 GND (power) "Ground"

## IC_IS25WP128-JLLE
designator U?, comment IS25WP128-JLLE
NOR Flash Serial (SPI, Dual SPI, Quad SPI) 1.8V 128M-bit 16M x 8 8ns 8-Pin WSON EP; Manufacturer: ISSI; Density: 128Mb; Address Bus Width: 24b; Interface: SPI,Serial; Page Size: 256B; Supplier 1: Digi-Key; Manufacturer Part Number: IS25WP128-JLLE; RoHS: Yes; Category: Memory; Stock 1: 11963; Pricing 1: 1=3.00000, 10=2.69300, 25=2.65120, 40=2.64425, 80=2.36275, 230=2.28513, 480=2.27679, 960=2.12010 (USD); Number of Pins: 8; Min Operating Temperature: -40°C; Max Operating Temperature: 105°C; Memory Type: NOR; Operating Supply Voltage: 1.8V; RoHS Compliant: Yes; Supplier 2: Mouser; Supplier Part Number 1: 706-1625-ND; Supplier Part Number 2: 870-25WP128-JLLE; ComponentLink6Description: Datasheet; ComponentLink6URL: C:\Users\Public\Documents\Altium\Projects\Cellar_Watchdog\Docs\Memory\IS25WP032-064-128.pdf; ComponentLink7Description: Design Guideline (Micron); ComponentLink7URL: C:\Users\Public\Documents\Altium\Projects\Cellar_Watchdog\Docs\Memory\tn2509_layout_guidelines_spi_nor_mt25q.pdf
footprint IC_SON127P800X600X80-9N (8-WSON (8mm x 6mm) package)
pins: 1 ~{CE} (in) "Chip Enable", 2 SO (IO1) (io) "Serial Data Output / IO1", 3 ~{WP} (IO2) (io) "Write Protect / Serial Data IO (IO2)", 4 GND (power) "Ground", 5 SI (IO0) (io) "Serial Data Input / IO0", 6 SCK (in) "Serial Data Clock", 7 ~{HOLD} or ~{RESET} (IO3) (io) "HOLD# or RESET# / Serial Data IO (IO3)", 8 VCC (power) "Power", 9 PAD (power) "Ground"

## IC_MCP73831T-2ATI/MC
designator U?, comment MCP73831T-2ATI/MC
Charger IC Lithium Ion/Polymer 8-DFN (2x3); Manufacturer: Microchip; Min Supply Voltage: 3.75V; Max Supply Voltage: 6V; Output Current: 500mA; Output Voltage: 4.2V; Supplier 1: Digi-Key; Manufacturer Part Number: MCP73831T-2ATI/MC; RoHS: Yes; Category: Battery Management; Stock 1: 3592; Pricing 1: 1=0.80000, 25=0.73520 (USD); Mount: Surface Mount; Case/Package: DFN; Number of Pins: 8; Min Operating Temperature: -40°C; Max Operating Temperature: 85°C; Packaging: Tape and Reel; Package Quantity: 3300; Radiation Hardening: No; Lead Free: Contains Lead; RoHS Compliant: Yes; Supplier 2: Mouser; Supplier Part Number 1: MCP73831T-2ATI/MCCT-ND; Supplier Part Number 2: 579-MCP73831T-2ATIMC; ComponentLink2Description: Datasheet; ComponentLink2URL: C:\Users\Public\Documents\Altium\Projects\Cellar_Watchdog\Docs\Battery Charger\MCP73831-Family-Data-Sheet-DS20001984H.pdf
footprint IC_SON50P200X300X100-9N (DFN-8 (2x3) Package)
pins: 1 VDD (power) "Battery Management Input Supply", 2 VDD (power) "Battery Management Input Supply", 3 VBAT (power) "Battery Charge Control Output", 4 VBAT (power) "Battery Charge Control Output", 5 STAT (out) "Charge Status Output", 6 VSS (power) "Battery Management 0V Reference", 7 NC "No Connection", 8 PROG (in) "Current Regulation Set and Charge Control Enable", 9 EP (power) "Exposed Thermal Pad (EP); must be connected to VSS"

## IC_SHT41-AD1B-R3
designator U?, comment SHT41-AD1B-R3
Humidity, Temperature 0 ~ 100% RH I²C ±1.8% RH 4 s Surface Mount; Manufacturer: Sensirion; Supplier 1: Digi-Key; Manufacturer Part Number: SHT41-AD1B-R3; RoHS: Yes; Stock 1: 9992; Pricing 1: 1=3.67000, 5=3.24000, 10=2.86200, 25=2.32200, 50=2.05200, 100=1.99800, 500=1.67400, 1000=1.56600, 5000=1.45800 (USD); Supplier Part Number 1: 1649-SHT41-AD1B-R3CT-ND; ComponentLink1Description: Datasheet; ComponentLink1URL: C:\Users\Public\Documents\Altium\Projects\Cellar_Watchdog\Docs\Sensor\Datasheet_SHT4xA.pdf
footprint IC_SENSIRION_SHT41-AD1B-R3 (Humidity / Temp Sensor Sensirion SHT41-AD1B-R3)
pins: 1 SDA (io) "I2C Serial Data", 2 SCL (in) "I2C Serial Clock", 3 VDD (power) "Supply Voltage", 4 VSS (power) "Ground"

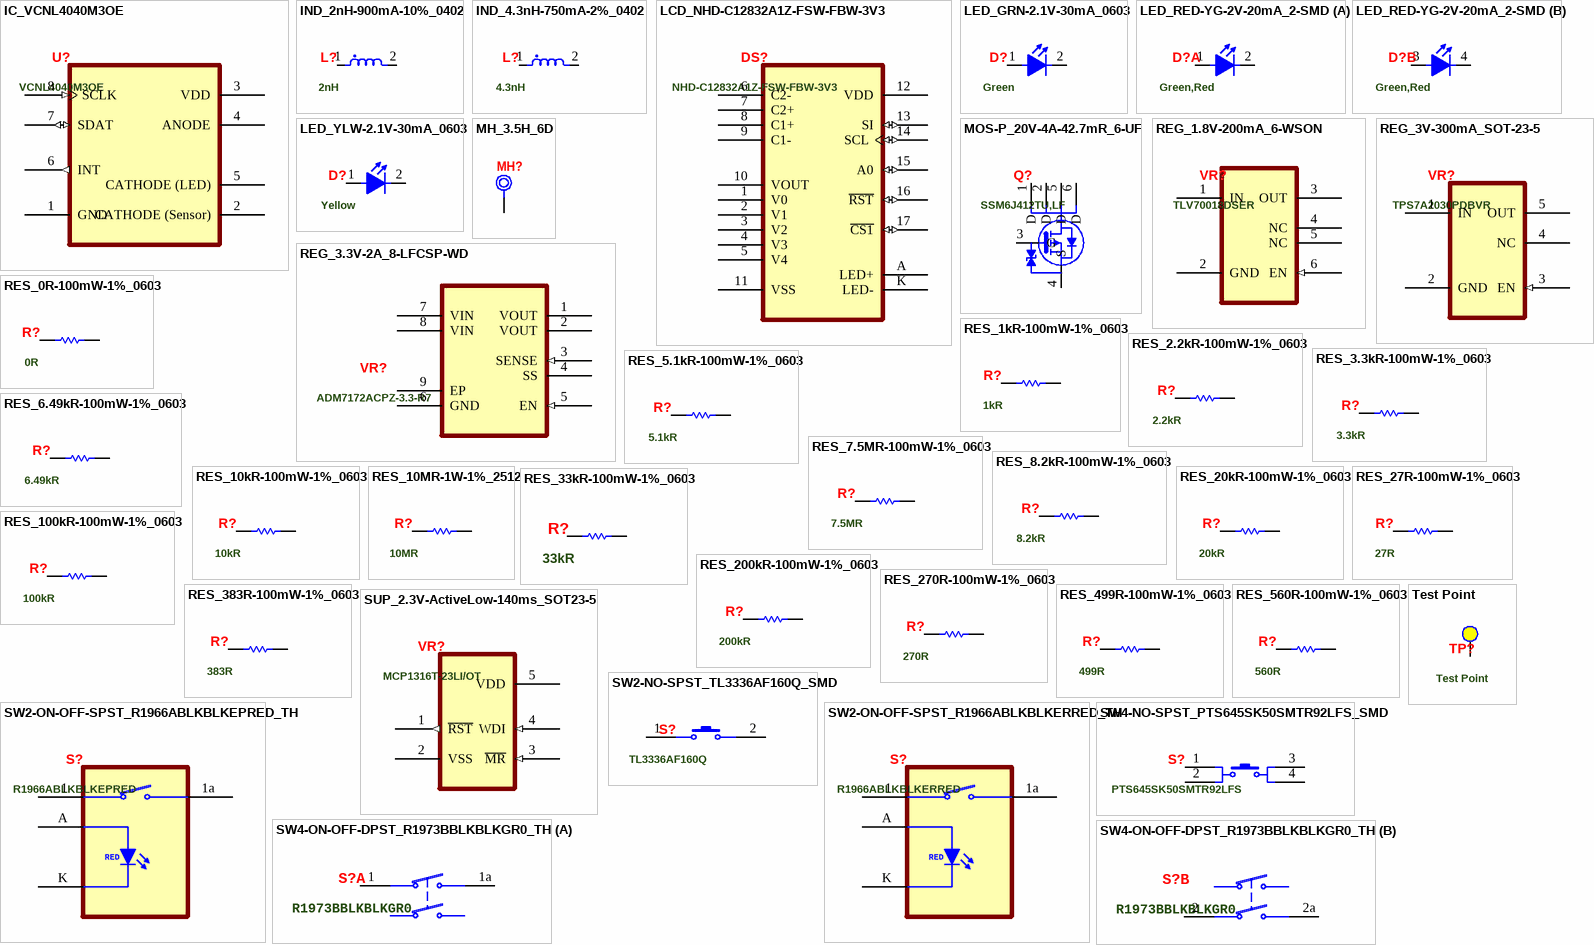
[diagram p1: symbols IC_VCNL4040M3OE to Test Point]

## IC_VCNL4040M3OE
designator U?, comment VCNL4040M3OE
Optical Sensor Ambient 550nm I²C 8-SMD Module; Manufacturer: Vishay Semiconductors; Sensing Distance: 200mm; Min Supply Voltage (DC): 2.5V; Max Supply Voltage (DC): 3.6V; Output Current: 200mA; Output Type: I2C,Digital; Supplier 1: Digi-Key; Manufacturer Part Number: VCNL4040M3OE; RoHS: Yes; Category: Optical Sensors; Stock 1: 96939; Pricing 1: 1=2.91000, 5=2.75200, 10=2.36000, 25=1.88760, 50=1.73040, 100=1.57300, 500=1.37638, 1000=1.21908 (USD); Mount: Surface Mount; Case/Package: SMD/SMT; Number of Pins: 8; Min Operating Temperature: -40°C; Max Operating Temperature: 85°C; Packaging: Cut Tape; Wavelength: 550nm; Series: Filtron™; RoHS Compliant: Yes; Lead Free: Lead Free; ComponentLink2URL: C:\Users\Public\Documents\Altium\Projects\Cellar_Watchdog\Docs\Sensor\vcnl4040.pdf; ComponentLink2Description: Datasheet; Supplier 2: Mouser; Supplier Part Number 2: 78-VCNL4040M3OE; Supplier Part Number 1: VCNL4040M3OECT-ND
footprint IC_VISHAY_VCNL4040_4X2X1.1 (Light/Proximity Sensor Vishay VCNL4040)
pins: 1 GND (power) "Ground", 2 CATHODE (Sensor) (power) "Cathode (sensor) connection", 3 VDD (power) "Power Supply Input", 4 ANODE (power) "Anode for IRED", 5 CATHODE (LED) (power) "Cathode (LED) connection", 6 INT (out) "Interrupt", 7 SDAT (io) "I2C data bus data input/output", 8 SCLK (in) "I2C digital bus clock input"

## IND_2nH-900mA-10%_0402
designator L?, comment 2nH
2 nH Unshielded Multilayer Inductor 900 mA 90mOhm Max 0402 (1005 Metric); Manufacturer: Murata; Manufacturer Part Number: LQG15HN2N0C02D; Supplier 1: Digi-Key; RoHS: Yes; Category: Fixed Inductors; Stock 1: 197887; Pricing 1: 1=0.10000, 10=0.06400, 25=0.05640, 50=0.04800, 100=0.04240, 250=0.03888, 500=0.03536, 1000=0.02969, 2500=0.02545 (USD); RoHS Compliant: Yes; Supplier 2: Mouser; Supplier Part Number 1: 490-15076-1-ND; Supplier Part Number 2: 81-LQG15HN2N0C02D; Inductance: 2nH; ComponentLink1Description: Datasheet; ComponentLink1URL: C:\Users\Public\Documents\Altium\Projects\Cellar_Watchdog\Docs\Inductor\JELF243B-0009.pdf
footprint IND_0402 (Inductor SMD 0402 (Metric 1005))
simulation model L_Inductor_Default (Model Description)
pins: 1, 2

## IND_4.3nH-750mA-2%_0402
designator L?, comment 4.3nH
4.3 nH Unshielded Multilayer Inductor 750 mA 140mOhm Max 0402 (1005 Metric); Manufacturer: Murata; Manufacturer Part Number: LQG15HS4N3B02D; Supplier 1: Digi-Key; RoHS: Yes; Category: Fixed Inductors; Stock 1: 29910; Pricing 1: 1=0.10000, 10=0.07700, 25=0.06880, 50=0.05840, 100=0.05150, 250=0.04720, 500=0.04292, 1000=0.03606, 2500=0.03090 (USD); Supplier 2: Mouser; Inductance: 4.3nH; Supplier Part Number 1: 490-LQG15HS4N3B02DCT-ND; Supplier Part Number 2: 81-LQG15HS4N3B02D; ComponentLink1Description: Datasheet; ComponentLink1URL: C:\Users\Public\Documents\Altium\Projects\Cellar_Watchdog\Docs\Inductor\JELF243B-0009.pdf
footprint IND_0402 (Inductor SMD 0402 (Metric 1005))
simulation model L_Inductor_Default (Model Description)
pins: 1, 2